# Altium integrated library Common.IntLib: 5 symbols
Pins are listed as number, name and electrical type; pins without a type are passive.

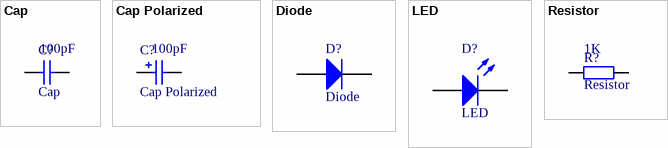
[diagram p0: symbols Cap to Resistor]

## Cap
designator C?  value 100pF
Capacitor
footprint CAPC(0805)2012X07N (Chip Diode, 2-Leads, Body 2,01x1,25mm, IPC Medium Density)
footprint CAPC(0805)2012X07N_wave (Chip Diode, 2-Leads, Body 2,01x1,25mm, IPC Medium Density)
pins: 1, 2

## Cap Polarized
designator C?  value 100pF
Polarized Capacitor (Radial)
pins: 1, 2
1 alternate drawing of the same symbol

## Diode
designator D?
Default Diode; Code_JEDEC: DO-214-AB
footprint Custom (MELF Diode, 2-Leads, Body 6,00x2,00mm, IPC Medium Density)
pins: 1 A, 2 K

## LED
designator D?
Typical LED
footprint KPT-3216 LED(1206)3216X07N (Chip Diode, 2-Leads, Body 3,25x1,60mm, IPC Medium Density)
pins: 1 A, 2 K

## Resistor
designator R?  value 1K
footprint RESC(0805)2112X05N (Chip Diode, 2-Leads, Body 2,05x1,25mm, IPC Medium Density)
footprint RESC(0805)2112X05N_wave (Chip Diode, 2-Leads, Body 2,05x1,25mm, IPC Medium Density)
pins: 1, 2